# Altium schematic symbol library Schlib1.SchLib: 5 symbols
Pins are listed as number, name and electrical type; pins without a type are passive.

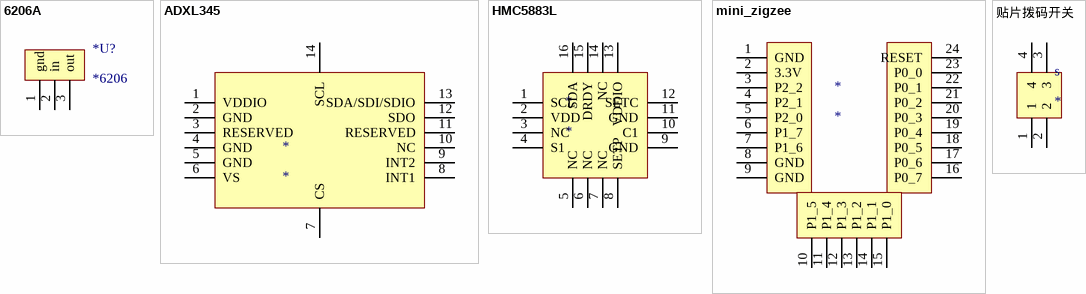
[diagram p0: symbols 6206A to 贴片拨码开关]

## 6206A
designator *U?, comment *6206
footprint SOT89/X.7
pins: 1 gnd, 2 in, 3 out

## ADXL345
designator *
footprint ADXL345
pins: 1 VDDIO, 2 GND, 3 RESERVED, 4 GND, 5 GND, 6 VS, 7 CS, 8 INT1, 9 INT2, 10 NC, 11 RESERVED, 12 SDO, 13 SDA/SDI/SDIO, 14 SCL

## HMC5883L
designator *
footprint HMC5883L
pins: 1 SCL, 2 VDD, 3 NC, 4 S1, 5 NC, 6 NC, 7 NC, 8 SETP, 9 GND, 10 C1, 11 GND, 12 SETC, 13 VDDIO, 14 NC, 15 DRDY, 16 SDA

## mini_zigzee
designator *
footprint mini_zigbee (zigbee)
pins: 1 GND, 2 3.3V, 3 P2_2, 4 P2_1, 5 P2_0, 6 P1_7, 7 P1_6, 8 GND, 9 GND, 10 P1_5, 11 P1_4, 12 P1_3, 13 P1_2, 14 P1_1, 15 P1_0, 16 P0_7, 17 P0_6, 18 P0_5, 19 P0_4, 20 P0_3, 21 P0_2, 22 P0_1, 23 P0_0, 24 RESET

## 贴片拨码开关
designator s
footprint 贴片拨码开关
pins: 1, 2, 3, 4